# EAGLE library part MOLEX_530470610 (library eagleparts)
Molex 1.25mm 6-positon PicoBlace connector. WM1735-ND https://www.digikey.com/en/products/detail/molex/0530470610/242857
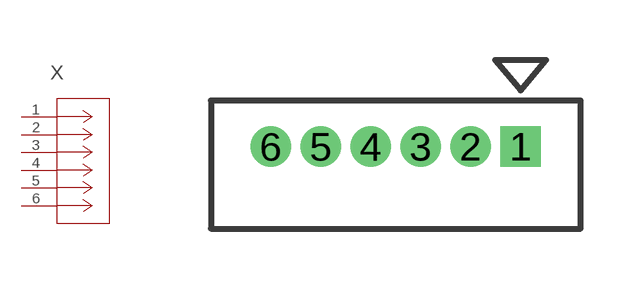
[diagram p5: symbol with the pads of CON_530470610_MOL; footprint CON_530470610_MOL]

Designator prefix X

## MOLEX_530470610CON_530470610_MOL (COPYRIGHT: Copyright (C) 2023 Ultra Librarian. All rights reserved.; MANUFACTURER_PART_NUMBER: 530470610; MFR_NAME: Molex Connector Corporation)  [CON_530470610_MOL]
1  1  pas
2  2  pas
3  3  pas
4  4  pas
5  5  pas
6  6  pas

## Footprint CON_530470610_MOL (pad centres in mm)
drill 0.5 pad 0.85 square: 1 0,0
drill 0.5 pad 0.85: 2 -1.25,0; 3 -2.5,0; 4 -3.75,0; 5 -5,0; 6 -6.25,0